# Altium footprint library PcbLib.PcbLib: 33 footprints (part 2 of 3)
Each footprint in its own frame and in the unit in brackets; x right, y up, seen from the top. Pads: shape width x height; smd on the part's side, far side on the other; paste and mask are expansions set on the pad; w line width, h text height; cw(c..) or ccw(c..) is an arc to the next point about the centre after c.
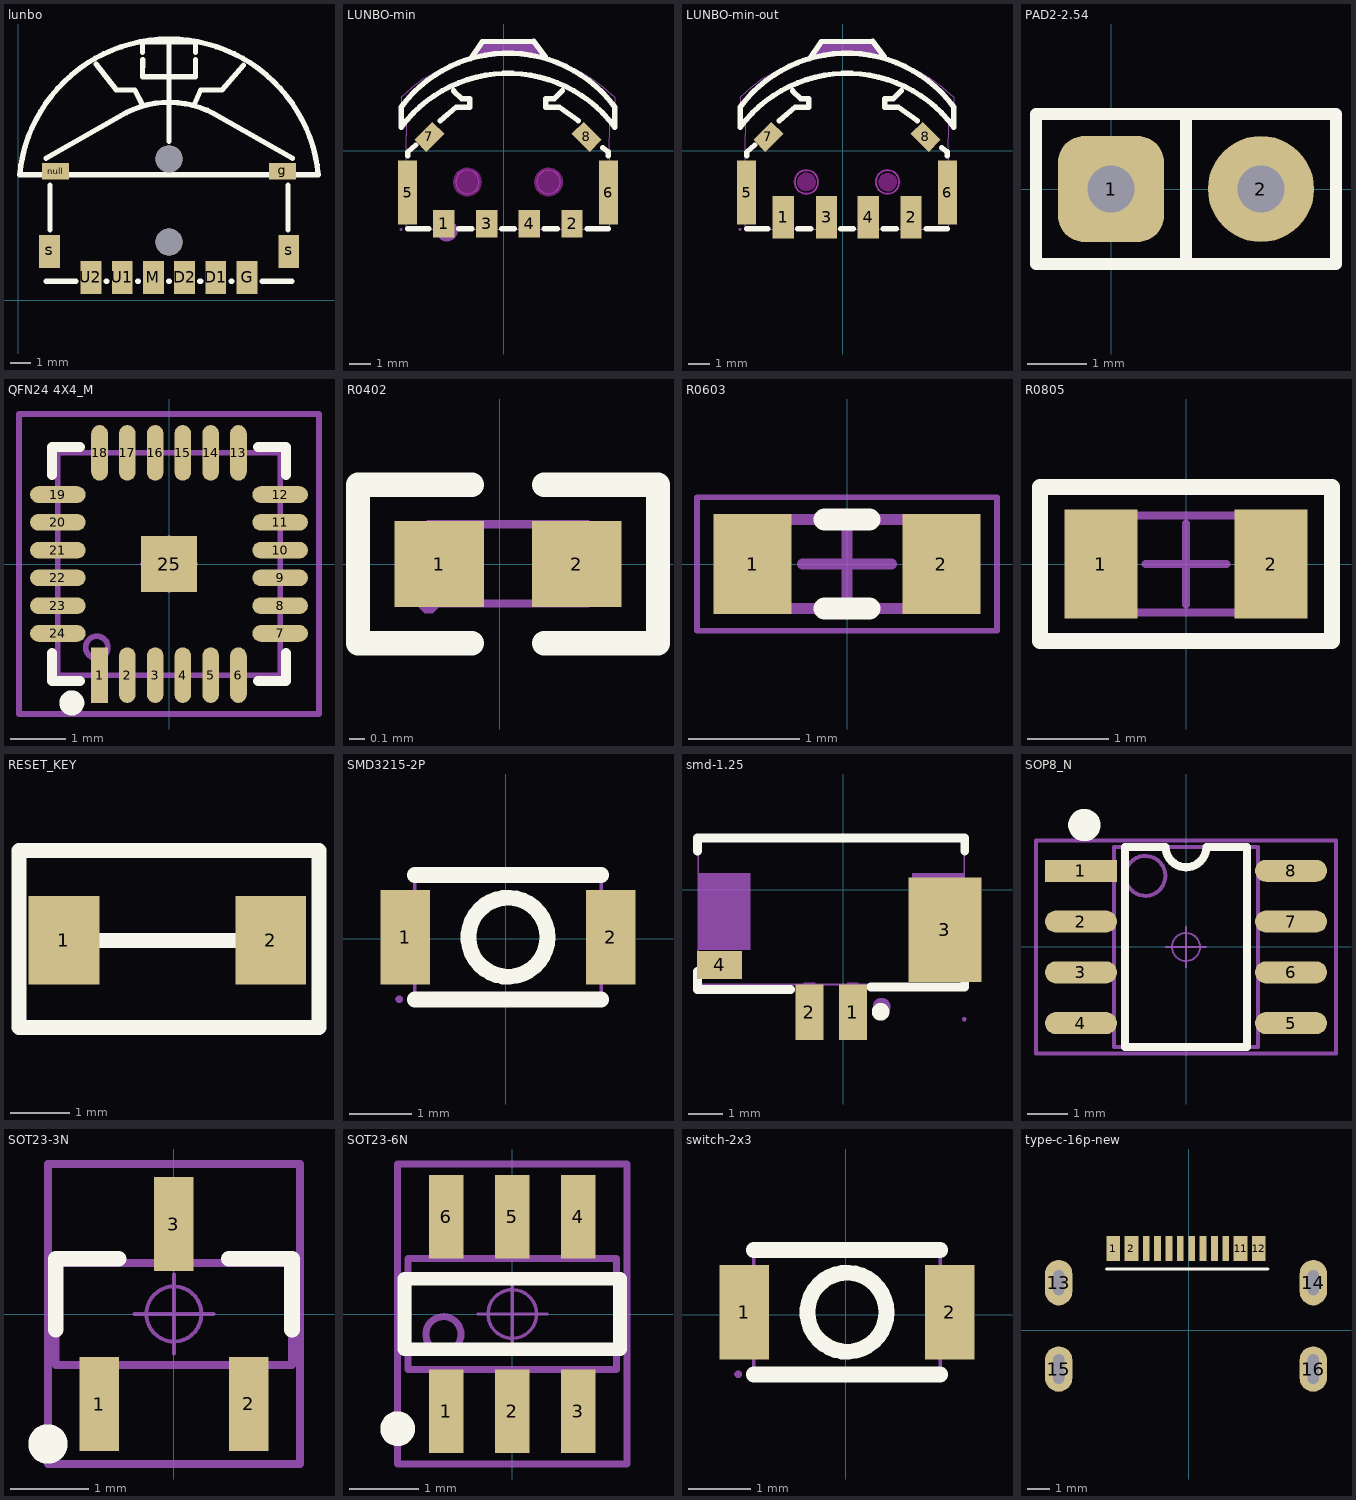
[diagram p1: the footprints below, top view; thin cyan lines are the x and y axes]

## lunbo [mm]
pads (12):
  rect 1x1.6 smd: D1(9.489,1.087) D2(7.989,1.087) G(10.989,1.087) M(6.489,1.087) s(1.489,2.337) s(12.989,2.337) U1(4.989,1.087) U2(3.489,1.087)
  rect 1.3x0.8 smd: g(12.689,6.187) null(1.789,6.187)
  round 1.3 hole 1.3 unplated: ""(7.239,2.787) ""(7.239,6.787)
Top Overlay:
  lines w0.254: 1.332,6.817 5.179,9.008 ; 1.339,0.907 2.758,0.907 ; 1.524,3.366 1.524,5.525 ; 3.747,11.332 4.699,10.097 5.588,10.097 5.995,9.332 ; 4.22,0.907 4.258,0.907 ; 5.179,9.007 cw(c7.239,5.017) 9.398,8.954 13.17,6.817 ; 5.72,0.907 5.758,0.907 ; 5.969,11.892 5.969,12.409 8.509,12.409 8.511,11.892 ; 5.972,11.543 5.969,10.732 8.509,10.732 8.512,11.542 ; 7.22,0.907 7.258,0.907 ; 7.239,7.628 7.239,12.517 ; 8.429,9.347 8.763,10.097 9.779,10.097 10.823,11.28 ; 8.72,0.907 8.758,0.907 ; 10.22,0.907 10.258,0.907 ; 11.72,0.907 13.149,0.907 ; 12.954,3.368 12.954,5.525 ; 0.063,6.017 cw(c7.239,5.337) 14.414,6.017 0.064,6.017

## LUNBO-min [mm]
pads (8):
  rect 1x1.3 smd: 1(-2.803,-3.414) 2(3.197,-3.414) 3(-0.803,-3.414) 4(1.197,-3.414)
  rect 0.9x3 smd: 5(-4.503,-1.964) 6(4.897,-1.964)
  rect 1.2x0.8 smd rot 45: 7(-3.483,0.646)
  rect 1.2x0.8 smd rot 135: 8(3.877,0.646)
Top Overlay:
  lines w0.25: -4.803,1.103 -4.803,2.031 ; -4.803,2.047 cw(c0.197,-1.652) 5.197,2.047 5.197,1.103 ; -4.802,1.103 cw(c0.198,-2.596) 5.198,1.103 ; -1.019,5.087 -1.556,4.31 -1.019,5.1 1.41,5.12 1.95,4.405
  lines w0.254: -4.503,-3.662 -3.503,-3.662 ; -4.502,-0.241 -4.502,-0.058 -4.121,0.267 ; -2.981,1.409 -2.219,2.044 -1.584,2.044 -1.584,2.425 -1.965,2.425 -2.346,2.806 ; -2.103,-3.662 -1.503,-3.662 ; -0.103,-3.662 0.497,-3.662 ; 1.897,-3.662 2.497,-3.662 ; 2.734,2.806 2.353,2.425 1.972,2.425 1.972,2.044 2.607,2.044 3.496,1.409 ; 3.897,-3.662 4.897,-3.662 ; 4.642,0.14 4.896,-0.058 4.896,-0.241
Keep-Out Layer:
  board cut-out: 2.647,-1.464 2.647,-1.355 2.563,-1.152 2.408,-0.998 2.206,-0.914 1.987,-0.914 1.785,-0.998 1.63,-1.152 1.547,-1.355 1.547,-1.464 1.547,-1.573 1.63,-1.776 1.785,-1.93 1.987,-2.014 2.206,-2.014 2.408,-1.93 2.563,-1.776 2.647,-1.573
  board cut-out: -1.153,-1.464 -1.153,-1.355 -1.237,-1.152 -1.392,-0.998 -1.594,-0.914 -1.813,-0.914 -2.015,-0.998 -2.169,-1.152 -2.253,-1.355 -2.253,-1.464 -2.253,-1.573 -2.169,-1.776 -2.015,-1.93 -1.813,-2.014 -1.594,-2.014 -1.392,-1.93 -1.237,-1.776 -1.153,-1.573
Keep-Out Layer:
  circle w0.025: c2.097,-1.464 r0.55
  circle w0.254: c2.097,-1.464 r0.55
  circle w0.025: c-1.703,-1.464 r0.55
  circle w0.254: c-1.703,-1.464 r0.55
Mechanical 1:
  circle w0.025: c2.097,-1.464 r0.55
  circle w0.025: c-1.703,-1.464 r0.55
Mechanical 6:
  circle w0.5: c-2.663,-3.744 r0.25
  region: -1.413,4.366 0.2,4.437 1.767,4.366 1.315,5.205 -0.947,5.198
Mechanical 15:
  region: -4.746,-3.682 -4.747,-3.658 -4.782,-3.624 -4.83,-3.624 -4.865,-3.658 -4.866,-3.682 -4.865,-3.706 -4.83,-3.739 -4.782,-3.739 -4.747,-3.706
  region: 2.872,-2.982 3.522,-2.982 3.522,-3.682 2.872,-3.682
  region: 0.872,-2.982 1.522,-2.982 1.522,-3.682 0.872,-3.682
  region: -1.128,-2.982 -0.478,-2.982 -0.478,-3.682 -1.128,-3.682
  region: -3.128,-2.982 -2.478,-2.982 -2.478,-3.682 -3.128,-3.682
  region: 4.637,-0.714 4.937,-0.714 4.937,-3.214 4.637,-3.214
  region: -4.557,-0.714 -4.257,-0.714 -4.257,-3.214 -4.557,-3.214
  region: 3.948,0.364 3.594,0.717 3.806,0.929 4.16,0.576
  region: -3.766,0.575 -3.412,0.929 -3.2,0.717 -3.554,0.363
  lines w0.051: -4.806,2.493 -4.804,1.501 -4.751,1.352 -4.565,1.344 -4.558,0.729 -4.558,-1.456 -4.558,-3.682 4.945,-3.667 4.939,-0.094 4.955,1.322 5.083,1.355 5.198,1.442 5.192,2.503 4.665,2.978 4.167,3.35 3.602,3.688 3.028,3.985 2.37,4.234 1.706,4.527 1.297,5.231 -0.926,5.22 -1.006,5.048 -1.276,4.515 -2.05,4.22 -2.619,3.999 -3.16,3.721 -3.743,3.387 -4.279,2.973 -4.806,2.493

## LUNBO-min-out [mm]
pads (8):
  rect 1x2 smd: 1(-2.788,-3.115) 2(3.197,-3.115) 3(-0.762,-3.115) 4(1.197,-3.115)
  rect 0.9x3 smd: 5(-4.503,-1.964) 6(4.897,-1.964)
  rect 1.2x0.8 smd rot 45: 7(-3.483,0.646)
  rect 1.2x0.8 smd rot 135: 8(3.877,0.646)
Top Overlay:
  lines w0.25: -4.803,1.103 -4.803,2.031 ; -4.803,2.047 cw(c0.197,-1.652) 5.197,2.047 5.197,1.103 ; -4.802,1.103 cw(c0.198,-2.596) 5.198,1.103 ; -1.019,5.087 -1.556,4.31 -1.019,5.1 1.41,5.12 1.95,4.405
  lines w0.254: -4.503,-3.662 -3.503,-3.662 ; -4.502,-0.241 -4.502,-0.058 -4.121,0.267 ; -2.981,1.409 -2.219,2.044 -1.584,2.044 -1.584,2.425 -1.965,2.425 -2.346,2.806 ; -2.103,-3.662 -1.503,-3.662 ; -0.103,-3.662 0.497,-3.662 ; 1.897,-3.662 2.497,-3.662 ; 2.734,2.806 2.353,2.425 1.972,2.425 1.972,2.044 2.607,2.044 3.496,1.409 ; 3.897,-3.662 4.897,-3.662 ; 4.642,0.14 4.896,-0.058 4.896,-0.241
Keep-Out Layer:
  board cut-out: -1.274,-1.43 -1.281,-1.344 -1.358,-1.192 -1.488,-1.081 -1.651,-1.028 -1.821,-1.042 -1.973,-1.119 -2.084,-1.249 -2.137,-1.411 -2.13,-1.497 -2.124,-1.582 -2.046,-1.734 -1.916,-1.845 -1.754,-1.898 -1.584,-1.885 -1.431,-1.807 -1.32,-1.677 -1.267,-1.515
  board cut-out: 2.529,-1.44 2.523,-1.355 2.445,-1.202 2.315,-1.091 2.153,-1.039 1.982,-1.052 1.83,-1.129 1.719,-1.259 1.666,-1.422 1.673,-1.507 1.68,-1.592 1.757,-1.744 1.887,-1.855 2.049,-1.908 2.22,-1.895 2.372,-1.817 2.483,-1.688 2.536,-1.525
Keep-Out Layer:
  circle w0.025: c2.097,-1.464 r0.55
  circle w0.025: c-1.703,-1.464 r0.55
  circle w0.1: c2.097,-1.464 r0.55
  circle w0.1: c-1.703,-1.464 r0.55
Mechanical 1:
  circle w0.025: c2.097,-1.464 r0.55
  circle w0.025: c-1.703,-1.464 r0.55
Mechanical 6:
  region: -1.413,4.366 0.2,4.437 1.767,4.366 1.315,5.205 -0.947,5.198
Mechanical 15:
  region: -4.746,-3.682 -4.747,-3.658 -4.782,-3.624 -4.83,-3.624 -4.865,-3.658 -4.866,-3.682 -4.865,-3.706 -4.83,-3.739 -4.782,-3.739 -4.747,-3.706
  region: 2.872,-2.982 3.522,-2.982 3.522,-3.682 2.872,-3.682
  region: 0.872,-2.982 1.522,-2.982 1.522,-3.682 0.872,-3.682
  region: -1.128,-2.982 -0.478,-2.982 -0.478,-3.682 -1.128,-3.682
  region: -3.128,-2.982 -2.478,-2.982 -2.478,-3.682 -3.128,-3.682
  region: 4.637,-0.714 4.937,-0.714 4.937,-3.214 4.637,-3.214
  region: -4.557,-0.714 -4.257,-0.714 -4.257,-3.214 -4.557,-3.214
  region: 3.948,0.364 3.594,0.717 3.806,0.929 4.16,0.576
  region: -3.766,0.575 -3.412,0.929 -3.2,0.717 -3.554,0.363
  lines w0.051: -4.806,2.493 -4.804,1.501 -4.751,1.352 -4.565,1.344 -4.558,0.729 -4.558,-1.456 -4.558,-3.682 4.945,-3.667 4.939,-0.094 4.955,1.322 5.083,1.355 5.198,1.442 5.192,2.503 4.665,2.978 4.167,3.35 3.602,3.688 3.028,3.985 2.37,4.234 1.706,4.527 1.297,5.231 -0.926,5.22 -1.006,5.048 -1.276,4.515 -2.05,4.22 -2.619,3.999 -3.16,3.721 -3.743,3.387 -4.279,2.973 -4.806,2.493

## PAD2-2.54 [mm] "引线焊盘"
height 0.5
pads (2):
  rrect50% 1.8x1.8 hole 0.8: 1(0,0)
  round 1.8 hole 0.8: 2(2.54,0)
Top Overlay:
  lines w0.203: 1.27,-1.27 1.27,1.27 ; -1.27,-1.27 3.81,-1.27 3.81,1.27 -1.27,1.27 -1.27,-1.27

## QFN24 4X4_M [mm] "24脚，长x宽x高：4x4x1mm，脚距：0.5mm"
height 1.2
pads (25):
  rect 0.3x1 smd: 1(-1.25,-2)
  oval 0.3x1 smd: 2(-0.75,-2) 3(-0.25,-2) 4(0.25,-2) 5(0.75,-2) 6(1.25,-2) 13(1.25,2) 14(0.75,2) 15(0.25,2) 16(-0.25,2) 17(-0.75,2) 18(-1.25,2)
  oval 1x0.3 smd: 7(2,-1.25) 8(2,-0.75) 9(2,-0.25) 10(2,0.25) 11(2,0.75) 12(2,1.25) 19(-2,1.25) 20(-2,0.75) 21(-2,0.25) 22(-2,-0.25) 23(-2,-0.75) 24(-2,-1.25)
  rect 1x1 smd: 25(0,0)
Top Overlay:
  circle w0.25: c-1.75,-2.5 r0.1
  lines w0.178: -2.106,-1.6 -2.106,-2.106 -1.6,-2.106 ; -2.106,1.6 -2.106,2.106 -1.6,2.106 ; 1.6,-2.106 2.106,-2.106 2.106,-1.6 ; 1.6,2.106 2.106,2.106 2.106,1.6
Mechanical 13:
  circle w0.1: c-1.3,-1.5 r0.2
  lines w0.1: -2,-2 2,-2 2,2 -2,2 -2,-2
Mechanical 15:
  circle w0.05: c0,0 r0.35
  lines w0.05: -0.5,0 0.5,0 ; 0,-0.5 0,0.5
  lines w0.1: -2.7,-2.7 -2.7,2.7 2.7,2.7 2.7,-2.7 -2.7,-2.7
3D body "QFN24-4X4.STEP": height 0.95, standoff -0.05, extent -2.01,-2.01 2.01,2.01

## R0402 [mm]
pads (2):
  rect 0.566x0.54 smd paste-100 mask+0.051: 1(-0.381,0) 2(0.485,0)
Top Overlay:
  lines w0.152: -0.174,-0.499 -0.892,-0.499 -0.892,0.499 -0.174,0.499 ; 0.278,-0.499 0.996,-0.499 0.996,0.499 0.278,0.499
Top Paste:
  region: -0.083,-0.23 -0.083,0.23 -0.123,0.27 -0.624,0.27 -0.664,0.23 -0.664,-0.23 -0.624,-0.27 -0.123,-0.27
  region: 0.187,-0.23 0.187,0.23 0.227,0.27 0.727,0.27 0.767,0.23 0.767,-0.23 0.727,-0.27 0.227,-0.27
Mechanical 15:
  region: -0.197,0.25 -0.197,-0.25 -0.447,-0.25 -0.447,0.25
  region: 0.303,-0.25 0.303,0.25 0.553,0.25 0.553,-0.25
  region: -0.388,-0.25 -0.388,-0.225 -0.423,-0.19 -0.473,-0.19 -0.508,-0.225 -0.508,-0.25 -0.508,-0.275 -0.473,-0.31 -0.423,-0.31 -0.388,-0.275
  lines w0.051: -0.448,-0.25 0.552,-0.25 0.552,0.25 -0.448,0.25 -0.448,-0.25

## R0603 [mm] "Chip Resistor, 2-Leads, Body 1.60x0.80mm, IPC Medium Density"
height 0.45
pads (2):
  rect 0.7x0.9 smd: 1(-0.85,0) 2(0.85,0)
Top Overlay:
  lines w0.2: -0.2,-0.4 0.2,-0.4 ; -0.2,0.4 0.2,0.4
Mechanical 13:
  lines w0.1: -0.8,-0.4 -0.8,0.4 0.8,0.4 0.8,-0.4 -0.8,-0.4
Mechanical 15:
  lines w0.05: -1.35,-0.6 -1.35,0.6 1.35,0.6 1.35,-0.6 -1.35,-0.6
  lines w0.1: -0.4,0 0.4,0 ; 0,-0.4 0,0.4
3D body "User Library-RESC1608X05N.STEP": height 0.45, standoff 0, extent -0.775,-0.425 0.775,0.425

## R0805 [mm] "Chip Resistor, 2-Leads, Body 2.00x1.20mm, IPC Medium Density"
height 1
pads (2):
  rect 0.9x1.35 smd: 1(-1.05,0) 2(1.05,0)
Top Overlay:
  lines w0.2: -1.8,-0.95 1.8,-0.95 1.8,0.95 -1.8,0.95 -1.8,-0.95
Mechanical 13:
  lines w0.1: -1,-0.6 1,-0.6 1,0.6 -1,0.6 -1,-0.6
Mechanical 15:
  lines w0.05: -1.85,-1 1.85,-1 1.85,1 -1.85,1 -1.85,-1
  lines w0.1: -0.5,0 0.5,0 ; 0,-0.5 0,0.5
3D body "User Library-Res_Vishay_CRCW0805_2012.STEP": height 0.45, standoff 0, extent -1,-0.625 1,0.625

## RESET_KEY [mm]
pads (2):
  rect 1.2x1.5 smd: 1(-289.814,41.148) 2(-286.314,41.148)
Top Overlay:
  lines w0.254: -289.814,41.148 -286.314,41.148 ; -290.576,39.672 -285.496,39.672 -285.496,42.672 -290.576,42.672 -290.576,39.672

## SMD3215-2P [mm]
pads (2):
  rect 0.8x1.524 smd: 1(-1.613,0.026) 2(1.688,0.026)
Top Overlay:
  circle w0.254: c0.037,0.026 r0.635
  lines w0.254: -1.463,-0.974 1.537,-0.974 ; -1.463,1.026 1.537,1.026
Mechanical 15:
  region: -1.653,-0.974 -1.654,-0.95 -1.689,-0.916 -1.737,-0.916 -1.772,-0.95 -1.773,-0.974 -1.772,-0.998 -1.737,-1.032 -1.689,-1.032 -1.654,-0.998
  region: 1.487,0.676 1.787,0.676 1.787,-0.624 1.487,-0.624
  region: -1.713,0.676 -1.413,0.676 -1.413,-0.624 -1.713,-0.624
  lines w0.051: -1.463,-0.974 -1.463,1.026 1.537,1.026 1.537,-0.974 -1.463,-0.974

## smd-1.25 [mm]
pads (4):
  rect 0.8x1.6 smd: 1(0.278,-3.518) 2(-0.972,-3.518)
  rect 2.1x3 smd: 3(2.921,-1.143)
  rect 1.3x0.8 smd: 4(-3.556,-2.159)
Top Overlay:
  circle w0.254: c1.073,-3.508 r0.127
  lines w0.254: -4.187,-2.349 -4.187,-2.868 -1.517,-2.868 ; -4.187,1.113 -4.187,1.492 3.493,1.492 3.493,1.113 ; 0.793,-2.798 3.493,-2.798 3.493,-2.349
Mechanical 6:
  circle w0.254: c1.103,-3.358 r0.127
Mechanical 15:
  region: 1.978,0.482 3.478,0.482 3.478,-1.718 1.978,-1.718
  region: -4.172,0.482 -2.672,0.482 -2.672,-1.718 -4.172,-1.718
  region: 0.438,-2.668 0.438,-3.368 0.118,-3.368 0.118,-2.668
  region: -0.812,-2.668 -0.812,-3.368 -1.132,-3.368 -1.132,-2.668
  region: 0.118,-3.318 0.438,-3.318 0.438,-3.718 0.118,-3.718
  region: -1.132,-3.318 -0.812,-3.318 -0.812,-3.718 -1.132,-3.718
  region: 3.538,-3.718 3.537,-3.694 3.502,-3.66 3.454,-3.66 3.419,-3.694 3.418,-3.718 3.419,-3.742 3.454,-3.776 3.502,-3.776 3.537,-3.742
  lines w0.051: -4.172,-2.718 -4.172,1.482 3.478,1.482 3.478,-2.718 -4.172,-2.718

## SOP8_N [mm] "5*6*1.8mm（长宽高）"
height 1.75
pads (8):
  rect 1.8x0.55 smd: 1(-2.625,1.905)
  oval 1.8x0.55 smd: 2(-2.625,0.635) 3(-2.625,-0.635) 4(-2.625,-1.905) 5(2.625,-1.905) 6(2.625,-0.635) 7(2.625,0.635) 8(2.625,1.905)
Top Overlay:
  circle w0.5: c-2.54,3.048 r0.155
  lines w0.2: -1.524,2.5 -1.524,-2.5 1.524,-2.5 1.524,2.5
  lines w0.203: -1.524,2.5 -0.508,2.5 ccw(c0,2.5) 0,1.992 ccw(c0,2.5) 0.508,2.5 1.524,2.5
Mechanical 13:
  circle w0.1: c-1.016,1.778 r0.5
  lines w0.1: -1.8,-2.5 1.8,-2.5 1.8,2.5 -1.8,2.5 -1.8,-2.5
Mechanical 15:
  circle w0.05: c0,0 r0.35
  lines w0.05: -0.5,0 0.5,0 ; 0,-0.5 0,0.5
  lines w0.1: -3.75,-2.667 -3.75,2.667 3.75,2.667 3.75,-2.667 -3.75,-2.667
3D body "SOP8.STEP": height 1.9, standoff 0, extent -3.003,-2.5 3.003,2.5

## SOT23-3N [mm] "3x1.3x1mm(长宽高)"
height 1.1
pads (3):
  rect 0.5x1.2 smd: 1(-0.95,-1.143) 2(0.95,-1.143) 3(0,1.143)
Top Overlay:
  circle w0.25: c-1.6,-1.651 r0.125
  lines w0.2: -1.501,-0.2 -1.501,0.7 -0.701,0.7 ; 0.699,0.7 1.499,0.7 1.499,-0.2
Mechanical 13:
  lines w0.1: -1.5,-0.65 1.5,-0.65 1.5,0.65 -1.5,0.65 -1.5,-0.65
Mechanical 15:
  circle w0.05: c0,0 r0.35
  lines w0.05: -0.5,0 0.5,0 ; 0,-0.5 0,0.5
  lines w0.1: -1.6,-1.905 1.6,-1.905 1.6,1.905 -1.6,1.905 -1.6,-1.905
3D body "SOT23-3.STEP": height 1.05, standoff 0, extent -1.5,-1.2 1.5,1.2

## SOT23-6N [mm] "3x1.6x1.1mm(长宽高)"
height 1.45
pads (6):
  rect 0.5x1.2 smd: 1(-0.95,-1.4) 2(0,-1.4) 3(0.95,-1.4) 4(0.95,1.4) 5(0,1.4) 6(-0.95,1.4)
Top Overlay:
  circle w0.25: c-1.651,-1.651 r0.125
  lines w0.2: -1.55,-0.508 1.55,-0.508 1.55,0.508 -1.55,0.508 -1.55,-0.508
Mechanical 13:
  circle w0.1: c-0.992,-0.292 r0.254
  lines w0.1: -1.5,-0.8 -1.5,0.8 1.5,0.8 1.5,-0.8 -1.5,-0.8
Mechanical 15:
  circle w0.05: c0,0 r0.35
  lines w0.05: -0.5,0 0.5,0 ; 0,-0.5 0,0.5
  lines w0.1: -1.651,-2.159 -1.651,2.159 1.651,2.159 1.651,-2.159 -1.651,-2.159
3D body "SOT23-6.STEP": height 1.15, standoff -0.03, extent -1.5,-1.403 1.5,1.403

## switch-2x3 [mm]
pads (2):
  rect 0.8x1.524 smd: 1(-1.632,0.044) 2(1.669,0.044)
Top Overlay:
  circle w0.254: c0.018,0.044 r0.635
  lines w0.254: -1.482,-0.956 1.518,-0.956 ; -1.482,1.044 1.518,1.044
Mechanical 15:
  region: -1.731,0.694 -1.432,0.694 -1.432,-0.606 -1.731,-0.606
  region: 1.469,0.694 1.769,0.694 1.769,-0.606 1.469,-0.606
  region: -1.672,-0.956 -1.672,-0.932 -1.707,-0.898 -1.756,-0.898 -1.791,-0.932 -1.791,-0.956 -1.791,-0.98 -1.756,-1.014 -1.707,-1.014 -1.672,-0.98
  lines w0.051: -1.482,-0.956 1.518,-0.956 1.518,1.044 -1.482,1.044 -1.482,-0.956

## type-c-16p-new [mm]
pads (16):
  rect 0.6x1.1 smd paste-100 mask+0.05: 1(-3.327,3.59) 2(-2.527,3.59) 11(2.273,3.59) 12(3.073,3.59)
  rect 0.3x1.1 smd paste-100 mask+0.05: 3(-1.877,3.59) 4(-1.377,3.59) 5(-0.877,3.59) 6(-0.377,3.59) 7(0.123,3.59) 8(0.623,3.59) 9(1.123,3.59) 10(1.623,3.59)
  oval 1.2x2 hole 0.5 slot 1.1 at 90 deg: 13(-5.727,2.097) 14(5.473,2.097)
  oval 1.2x2 hole 0.5 slot 1.3 at 90 deg: 15(-5.727,-1.703) 16(5.473,-1.703)
Top Overlay:
  lines w0.15: -3.627,2.697 3.273,2.697 3.473,2.697
Top Paste:
  region: -1.027,4.141 -0.727,4.141 -0.727,3.041 -1.027,3.041
  region: 0.473,4.141 0.773,4.141 0.773,3.041 0.473,3.041
  region: -2.027,4.141 -1.727,4.141 -1.727,3.041 -2.027,3.041
  region: -2.827,4.141 -2.227,4.141 -2.227,3.041 -2.827,3.041
  region: -0.527,4.141 -0.227,4.141 -0.227,3.041 -0.527,3.041
  region: -1.527,4.141 -1.227,4.141 -1.227,3.041 -1.527,3.041
  region: -3.627,4.141 -3.027,4.141 -3.027,3.041 -3.627,3.041
  region: -0.027,4.141 0.273,4.141 0.273,3.041 -0.027,3.041
  region: 1.973,4.141 2.573,4.141 2.573,3.041 1.973,3.041
  region: 2.773,4.14 3.373,4.14 3.373,3.04 2.773,3.04
  region: 0.973,4.141 1.273,4.141 1.273,3.041 0.973,3.041
  region: 1.473,4.141 1.773,4.141 1.773,3.041 1.473,3.041
3D body "TYPEC_6P.STEP": height 1.59, standoff -1.57, extent -5.827,-3.503 5.573,3.047